# Altium integrated library ESP32.IntLib: 1 symbol
Pins are listed as number, name and electrical type; pins without a type are passive.

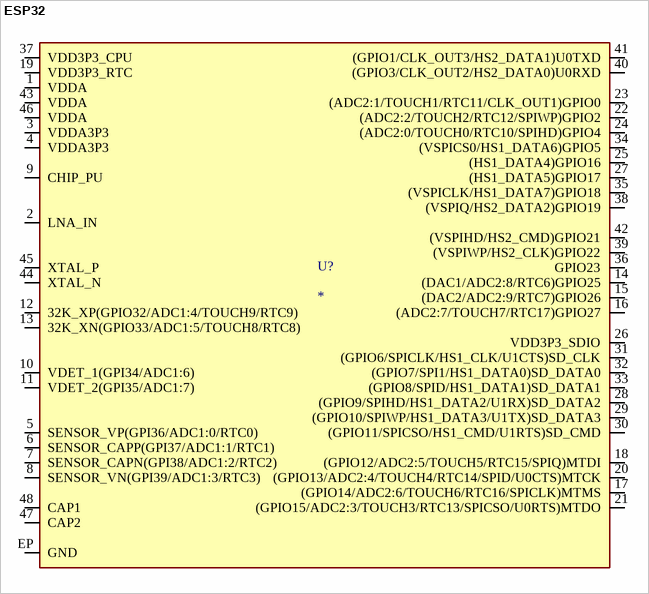
[diagram p0: symbol ESP32]

## ESP32
designator U?
Bluetooth, WiFi 802.11b/g/n, Bluetooth v4.2 +EDR, Class 1, 2 and 3 Transceiver Module 2.4GHz ~ 2.5GHz Antenna Not Included, U.FL Surface Mount; MP: ESP32; MF: Espressif Systems; Package: Module Espressif Systems; Purchase-URL: https://pricing.snapeda.com/search/part/ESP32/?ref=eda; Value: *; Check_prices: https://www.snapeda.com/parts/ESP32/Espressif%20Systems/view-part/2274078/?ref=eda; SnapEDA_Link: https://www.snapeda.com/parts/ESP32/Espressif%20Systems/view-part/2274078/?ref=snap
footprint QFN48-0.4MM
pins: 1 VDDA (io), 2 LNA_IN (io), 3 VDDA3P3 (io), 4 VDDA3P3 (io), 5 SENSOR_VP(GPI36/ADC1:0/RTC0) (io), 6 SENSOR_CAPP(GPI37/ADC1:1/RTC1) (io), 7 SENSOR_CAPN(GPI38/ADC1:2/RTC2) (io), 8 SENSOR_VN(GPI39/ADC1:3/RTC3) (io), 9 CHIP_PU (io), 10 VDET_1(GPI34/ADC1:6) (io), 11 VDET_2(GPI35/ADC1:7) (io), 12 32K_XP(GPIO32/ADC1:4/TOUCH9/RTC9) (io), 13 32K_XN(GPIO33/ADC1:5/TOUCH8/RTC8) (io), 14 (DAC1/ADC2:8/RTC6)GPIO25 (io), 15 (DAC2/ADC2:9/RTC7)GPIO26 (io), 16 (ADC2:7/TOUCH7/RTC17)GPIO27 (io), 17 (GPIO14/ADC2:6/TOUCH6/RTC16/SPICLK)MTMS (io), 18 (GPIO12/ADC2:5/TOUCH5/RTC15/SPIQ)MTDI (io), 19 VDD3P3_RTC (io), 20 (GPIO13/ADC2:4/TOUCH4/RTC14/SPID/U0CTS)MTCK (io), 21 (GPIO15/ADC2:3/TOUCH3/RTC13/SPICSO/U0RTS)MTDO (io), 22 (ADC2:2/TOUCH2/RTC12/SPIWP)GPIO2 (io), 23 (ADC2:1/TOUCH1/RTC11/CLK_OUT1)GPIO0 (io), 24 (ADC2:0/TOUCH0/RTC10/SPIHD)GPIO4 (io), 25 (HS1_DATA4)GPIO16 (io), 26 VDD3P3_SDIO (io), 27 (HS1_DATA5)GPIO17 (io), 28 (GPIO9/SPIHD/HS1_DATA2/U1RX)SD_DATA2 (io), 29 (GPIO10/SPIWP/HS1_DATA3/U1TX)SD_DATA3 (io), 30 (GPIO11/SPICSO/HS1_CMD/U1RTS)SD_CMD (io), 31 (GPIO6/SPICLK/HS1_CLK/U1CTS)SD_CLK (io), 32 (GPIO7/SPI1/HS1_DATA0)SD_DATA0 (io), 33 (GPIO8/SPID/HS1_DATA1)SD_DATA1 (io), 34 (VSPICS0/HS1_DATA6)GPIO5 (io), 35 (VSPICLK/HS1_DATA7)GPIO18 (io), 36 GPIO23 (io), 37 VDD3P3_CPU (io), 38 (VSPIQ/HS2_DATA2)GPIO19 (io), 39 (VSPIWP/HS2_CLK)GPIO22 (io), 40 (GPIO3/CLK_OUT2/HS2_DATA0)U0RXD (io), 41 (GPIO1/CLK_OUT3/HS2_DATA1)U0TXD (io), 42 (VSPIHD/HS2_CMD)GPIO21 (io), 43 VDDA (io), 44 XTAL_N (io), 45 XTAL_P (io), 46 VDDA (io), 47 CAP2 (io), 48 CAP1 (io), EP GND (io)